# Altium footprint library MCP39F521.PcbLib: 2 footprints
Each footprint in its own frame and in the unit in brackets; x right, y up, seen from the top. Pads: shape width x height; smd on the part's side, far side on the other; paste and mask are expansions set on the pad; w line width, h text height; cw(c..) or ccw(c..) is an arc to the next point about the centre after c.
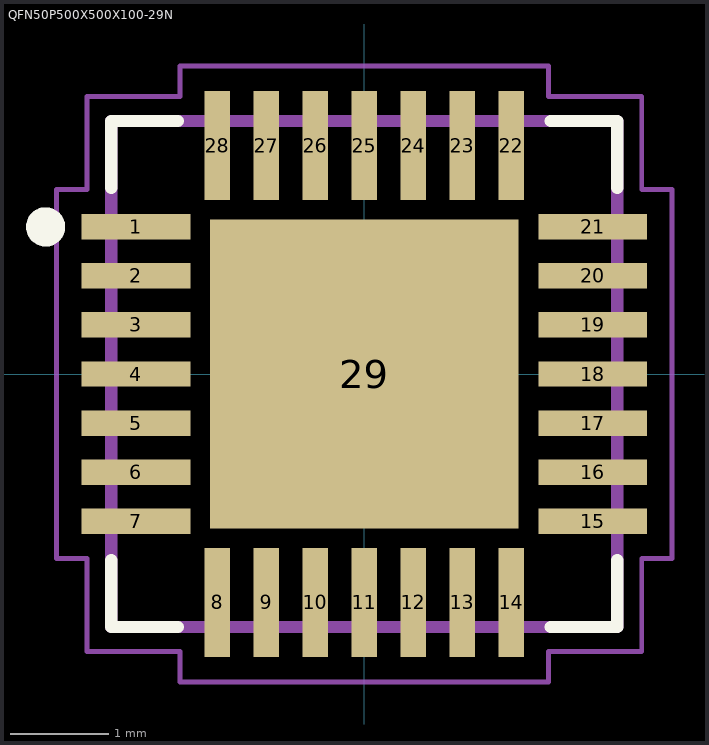
[diagram p0: the footprints below, top view; thin cyan lines are the x and y axes]

## PCBComponent_1 [mm]

## QFN50P500X500X100-29N [mm]
pads (29):
  rect 1.11x0.26 smd: 1(-2.33,1.5) 2(-2.33,1) 3(-2.33,0.5) 4(-2.33,0) 5(-2.33,-0.5) 6(-2.33,-1) 7(-2.33,-1.5) 15(2.33,-1.5) 16(2.33,-1) 17(2.33,-0.5) 18(2.33,0) 19(2.33,0.5) 20(2.33,1) 21(2.33,1.5)
  rect 0.26x1.11 smd: 8(-1.5,-2.33) 9(-1,-2.33) 10(-0.5,-2.33) 11(0,-2.33) 12(0.5,-2.33) 13(1,-2.33) 14(1.5,-2.33) 22(1.5,2.33) 23(1,2.33) 24(0.5,2.33) 25(0,2.33) 26(-0.5,2.33) 27(-1,2.33) 28(-1.5,2.33)
  rect 3.15x3.15 smd: 29(0,0)
Top Overlay:
  circle w0.2: c-3.25,1.5 r0.1
  lines w0.127: -2.58,-1.9 -2.58,-2.58 -1.9,-2.58 ; -2.58,1.9 -2.58,2.58 -1.9,2.58 ; 1.9,-2.58 2.58,-2.58 2.58,-1.9 ; 1.9,2.58 2.58,2.58 2.58,1.9
Top Paste:
  region: -1.002,1 1,1 1,-1.002 -1.002,-1.002
Mechanical 1:
  lines w0.127: -2.58,-2.58 2.58,-2.58 2.58,2.58 -2.58,2.58 -2.58,-2.58
Mechanical 4:
  lines w0.05: -3.14,-1.88 -3.14,1.88 -2.83,1.88 -2.83,2.83 -1.88,2.83 -1.88,3.14 1.88,3.14 1.88,2.83 2.83,2.83 2.83,1.88 3.14,1.88 3.14,-1.88 2.83,-1.88 2.83,-2.83 1.88,-2.83 1.88,-3.14 -1.88,-3.14 -1.88,-2.83 -2.83,-2.83 -2.83,-1.88 -3.14,-1.88